# EAGLE library part DECR3B (library decrementeur3b)
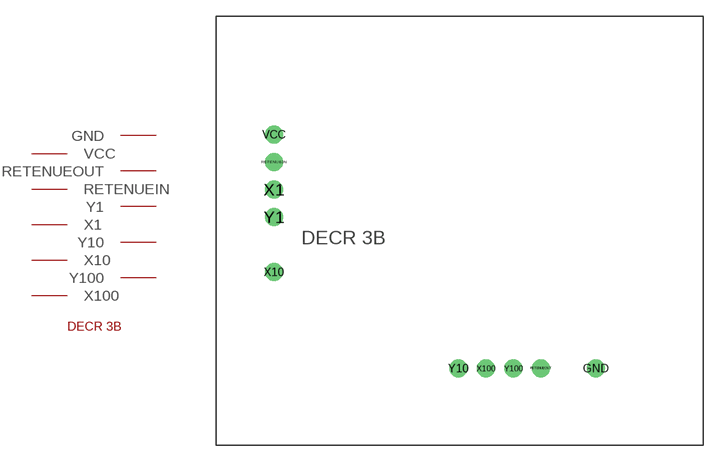
[diagram p0: symbol with the pads of DECR3B; footprint DECR3B]

Designator prefix -

## DECR3B  [DECR3B]
GND  GND
RETENUEIN  RETENUEIN
RETENUEOUT  RETENUEOUT
VCC  VCC
X1  X1
X10  X10
X100  X100
Y1  Y1
Y10  Y10
Y100  Y100

## Footprint DECR3B (pad centres in mm)
drill 0.8 pad 1.676: GND 29.718,-11.43; RETENUEIN 0,7.62; RETENUEOUT 24.638,-11.43; VCC 0,10.16; X1 0,5.08; X10 0,-2.54; X100 19.558,-11.43; Y1 0,2.54; Y10 17.018,-11.43; Y100 22.098,-11.43